# EAGLE library part DF23C-30 (library con-Hirose)
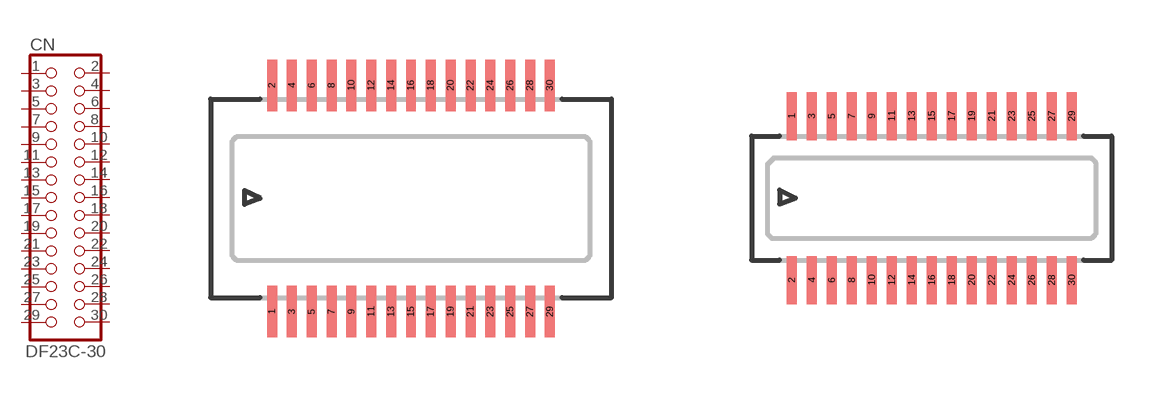
[diagram p14: symbol with the pads of DF23C-30DS; footprints DF23C-30DS, DF23C-30DP]

Designator prefix CN

## DF23C-30DS  [DF23C-30DS]
1  1  pas
2  2  pas
3  3  pas
4  4  pas
5  5  pas
6  6  pas
7  7  pas
8  8  pas
9  9  pas
10  10  pas
11  11  pas
12  12  pas
13  13  pas
14  14  pas
15  15  pas
16  16  pas
17  17  pas
18  18  pas
19  19  pas
20  20  pas
21  21  pas
22  22  pas
23  23  pas
24  24  pas
25  25  pas
26  26  pas
27  27  pas
28  28  pas
29  29  pas
30  30  pas

## DF23C-30DP  [DF23C-30DP]
Pads as for DF23C-30DS

## Footprint DF23C-30DS (pad centres in mm)
smd 0.25 x 1.3: 1 -3.5,-2.85; 2 -3.5,2.85; 3 -3,-2.85; 4 -3,2.85; 5 -2.5,-2.85; 6 -2.5,2.85; 7 -2,-2.85; 8 -2,2.85; 9 -1.5,-2.85; 10 -1.5,2.85; 11 -1,-2.85; 12 -1,2.85; 13 -0.5,-2.85; 14 -0.5,2.85; 15 0,-2.85; 16 0,2.85; 17 0.5,-2.85; 18 0.5,2.85; 19 1,-2.85; 20 1,2.85; 21 1.5,-2.85; 22 1.5,2.85; 23 2,-2.85; 24 2,2.85; 25 2.5,-2.85; 26 2.5,2.85; 27 3,-2.85; 28 3,2.85; 29 3.5,-2.85; 30 3.5,2.85

## Footprint DF23C-30DP (pad centres in mm)
smd 0.25 x 1.2: 1 -3.5,2.05; 2 -3.5,-2.05; 3 -3,2.05; 4 -3,-2.05; 5 -2.5,2.05; 6 -2.5,-2.05; 7 -2,2.05; 8 -2,-2.05; 9 -1.5,2.05; 10 -1.5,-2.05; 11 -1,2.05; 12 -1,-2.05; 13 -0.5,2.05; 14 -0.5,-2.05; 15 0,2.05; 16 0,-2.05; 17 0.5,2.05; 18 0.5,-2.05; 19 1,2.05; 20 1,-2.05; 21 1.5,2.05; 22 1.5,-2.05; 23 2,2.05; 24 2,-2.05; 25 2.5,2.05; 26 2.5,-2.05; 27 3,2.05; 28 3,-2.05; 29 3.5,2.05; 30 3.5,-2.05